# Altium footprint library CRYSTALS.PcbLib: 1 footprints
Each footprint in its own frame and in the unit in brackets; x right, y up, seen from the top. Pads: shape width x height; smd on the part's side, far side on the other; paste and mask are expansions set on the pad; w line width, h text height; cw(c..) or ccw(c..) is an arc to the next point about the centre after c.
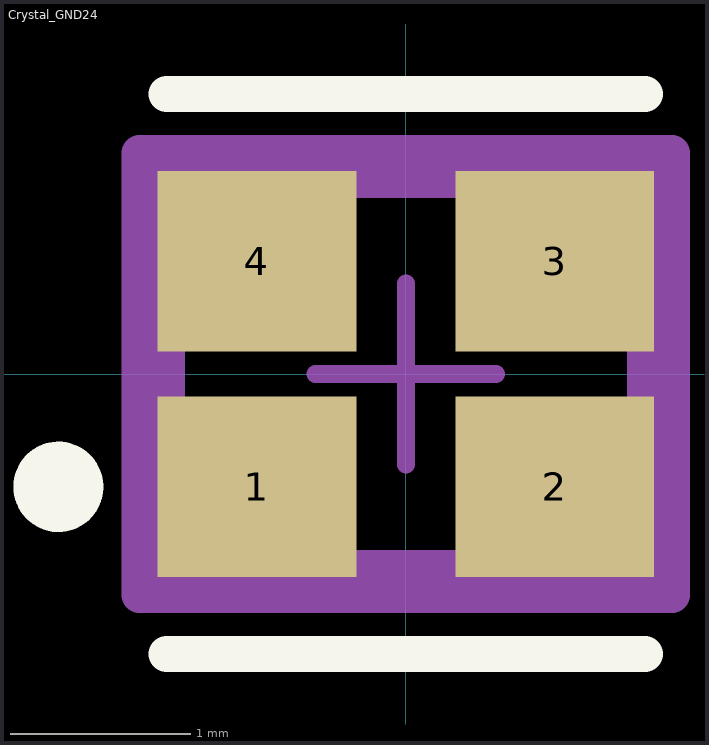
[diagram p0: the footprint, top view; thin cyan lines are the x and y axes]

## Crystal_GND24 [mm]
pads (4):
  rect 1.1x1 smd paste+0 mask+0: 1(-0.825,-0.625) 2(0.825,-0.625) 3(0.825,0.625) 4(-0.825,0.625)
Top Overlay:
  circle w0.25: c-1.925,-0.625 r0.125
  lines w0.2: -1.325,-1.55 1.325,-1.55 ; -1.325,1.55 1.325,1.55
Top Assembly:
  lines w0.2: -1.475,-1.225 1.475,-1.225 1.475,1.225 -1.475,1.225 -1.475,-1.225
Top Component Center:
  lines w0.1: -0.5,0 0.5,0 ; 0,-0.5 0,0.5
Top Component Outline:
  lines w0.2: -1.325,-1.075 1.325,-1.075 1.325,1.075 -1.325,1.075 -1.325,-1.075
Top Courtyard:
  lines w0.2: -1.475,-1.225 -1.475,1.225 1.475,1.225 1.475,-1.225 -1.475,-1.225
Top Designator:
  text ".Designator" at -7.63,-0.521 h1.52
3D body "Crys_Abracon_ABM10AIG-24_000MHZ-4-T3_eec.STEP": height 0.25, standoff 0, extent -1.475,-1.225 1.475,1.225